# Altium footprint library PcbLib-LQFP64.PcbLib: 1 footprints
Each footprint in its own frame and in the unit in brackets; x right, y up, seen from the top. Pads: shape width x height; smd on the part's side, far side on the other; paste and mask are expansions set on the pad; w line width, h text height; cw(c..) or ccw(c..) is an arc to the next point about the centre after c.
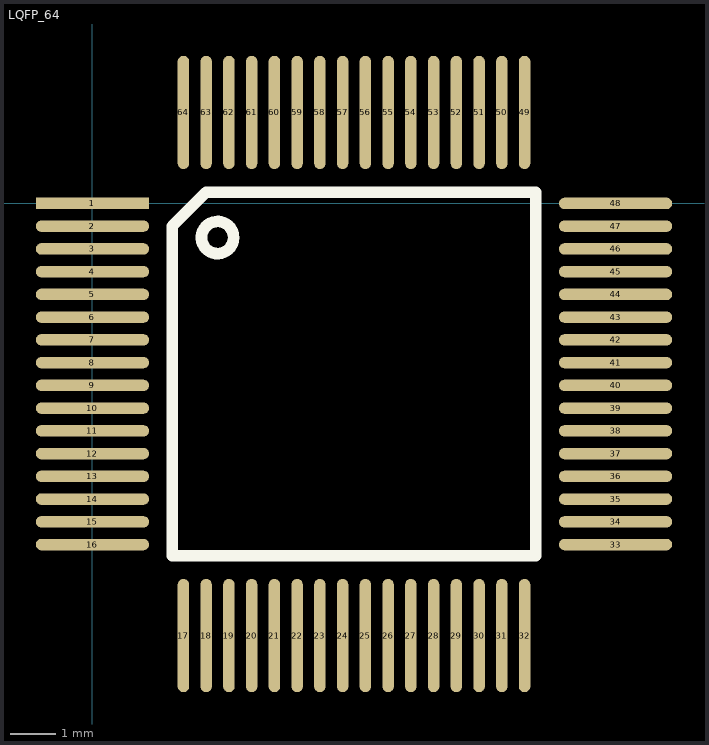
[diagram p0: the footprint, top view; thin cyan lines are the x and y axes]

## LQFP_64 [mil]
pads (64):
  rect 98x10 smd: 1(0,0)
  oval 98x10 smd: 2(0,-19.68) 3(0,-39.37) 4(0,-59.05) 5(0,-78.74) 6(0,-98.42) 7(0,-118.11) 8(0,-137.79) 9(0,-157.48) 10(0,-177.16) 11(0,-196.85) 12(0,-216.53) 13(0,-236.22) 14(0,-255.91) 15(0,-275.59) 16(0,-295.28) 33(452.76,-295.28) 34(452.76,-275.59) 35(452.76,-255.91) 36(452.76,-236.22) 37(452.76,-216.54) 38(452.76,-196.85) 39(452.76,-177.17) 40(452.76,-157.48) 41(452.76,-137.8) 42(452.76,-118.11) 43(452.76,-98.43) 44(452.76,-78.74) 45(452.76,-59.06) 46(452.76,-39.37) 47(452.76,-19.69) 48(452.76,0)
  oval 10x98 smd: 17(78.74,-374.02) 18(98.43,-374.02) 19(118.11,-374.02) 20(137.8,-374.02) 21(157.48,-374.02) 22(177.17,-374.02) 23(196.85,-374.02) 24(216.54,-374.02) 25(236.22,-374.02) 26(255.91,-374.02) 27(275.59,-374.02) 28(295.28,-374.02) 29(314.96,-374.02) 30(334.65,-374.02) 31(354.33,-374.02) 32(374.02,-374.02) 49(374.02,78.74) 50(354.33,78.74) 51(334.65,78.74) 52(314.96,78.74) 53(295.28,78.74) 54(275.59,78.74) 55(255.91,78.74) 56(236.22,78.74) 57(216.54,78.74) 58(196.85,78.74) 59(177.17,78.74) 60(157.48,78.74) 61(137.8,78.74) 62(118.11,78.74) 63(98.43,78.74) 64(78.74,78.74)
Top Overlay:
  circle w10: c108.27,-29.53 r13.92
  lines w10: 68.9,-305.12 68.9,-19.69 98.43,9.84 383.86,9.84 383.86,-305.12 68.9,-305.12